# Altium footprint library CYBERGATE_V1_MASTERBOARD.PcbLib: 15 footprints
Each footprint in its own frame and in the unit in brackets; x right, y up, seen from the top. Pads: shape width x height; smd on the part's side, far side on the other; paste and mask are expansions set on the pad; w line width, h text height; cw(c..) or ccw(c..) is an arc to the next point about the centre after c.
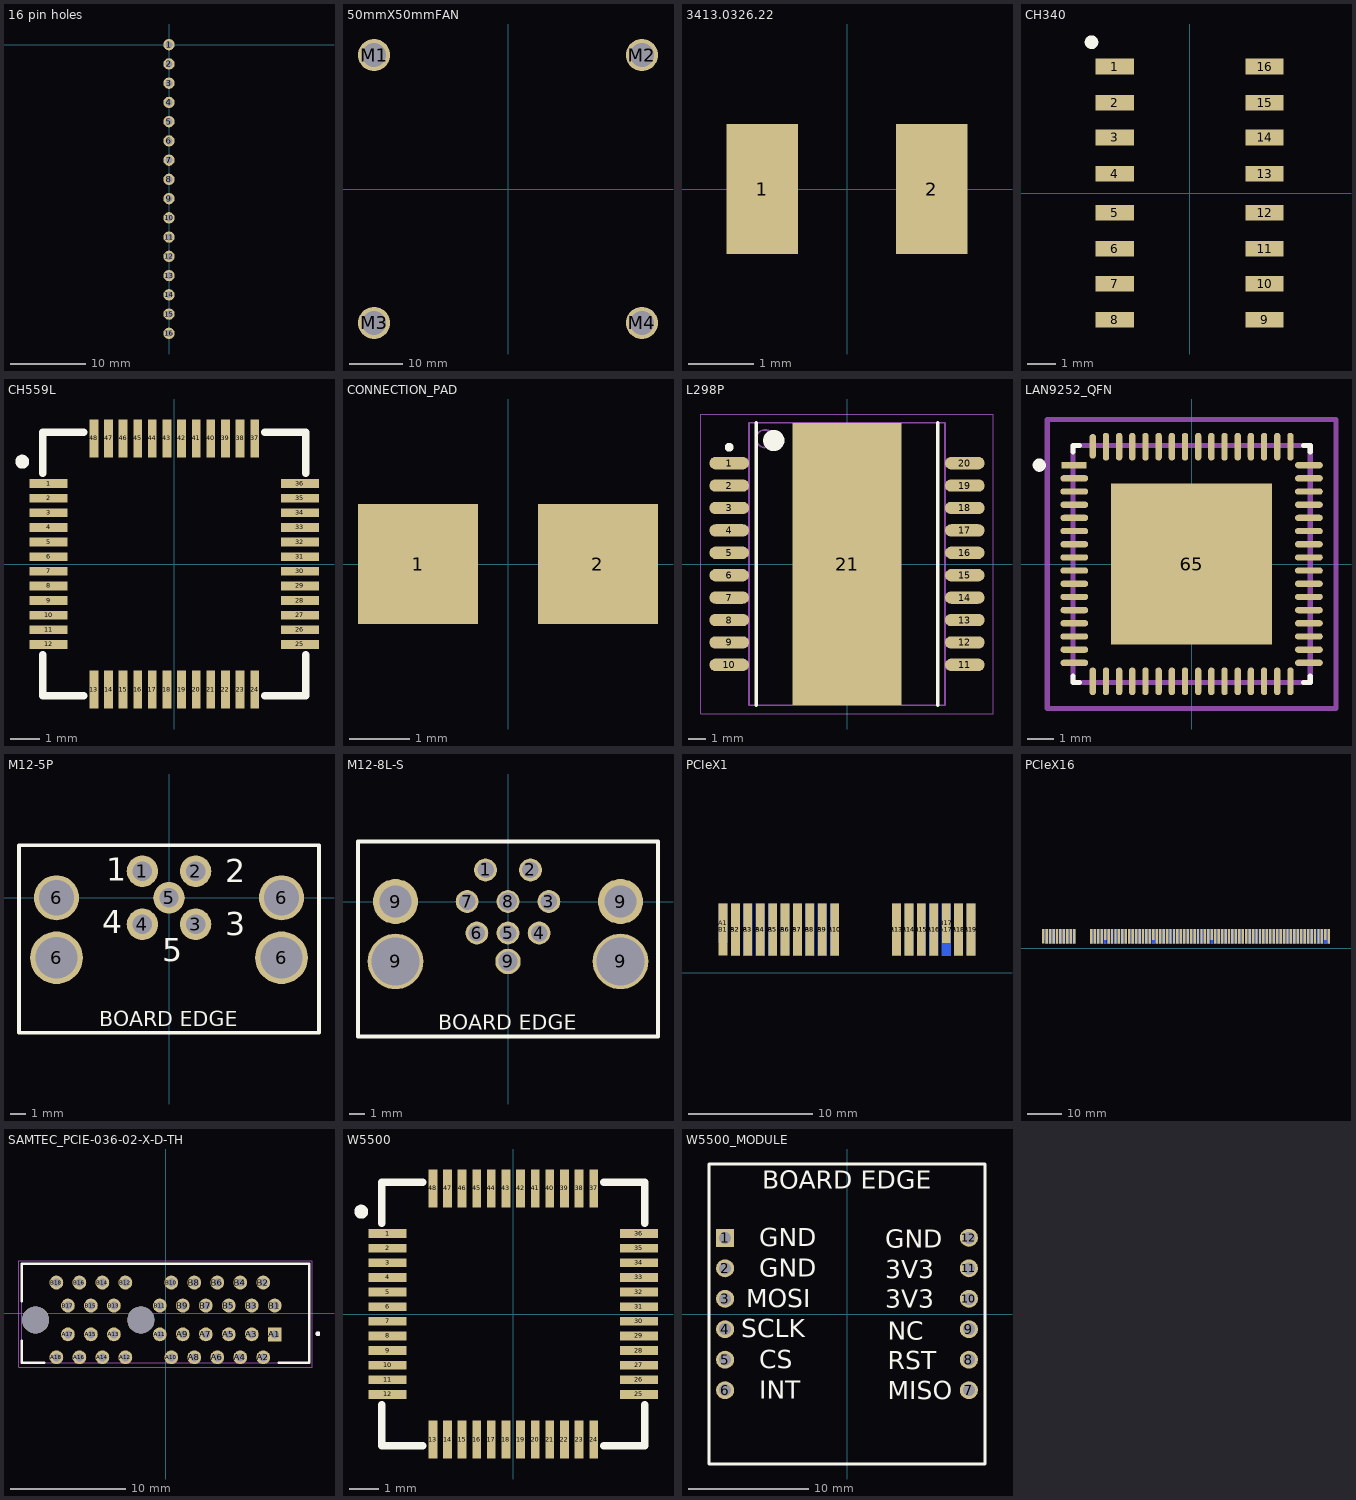
[diagram p0: the footprints below, top view; thin cyan lines are the x and y axes]

## 16 pin holes [mm]
pads (16):
  round 1.5 hole 0.9: 1(0,0) 2(0,-2.54) 3(0,-5.08) 4(0,-7.62) 5(0,-10.16) 6(0,-12.7) 7(0,-15.24) 8(0,-17.78) 9(0,-20.32) 10(0,-22.86) 11(0,-25.4) 12(0,-27.94) 13(0,-30.48) 14(0,-33.02) 15(0,-35.56) 16(0,-38.1)

## 50mmX50mmFAN [mm]
pads (4):
  round 6 hole 4.5: M1(-25,25) M2(25,25) M3(-25,-25) M4(25,-25)

## 3413.0326.22 [mm]
pads (2):
  rect 1.1x2 smd: 1(-1.3,0) 2(1.3,0)
3D body "3413.0326.22.step": height 0.67, standoff 0, extent -1.624,-0.7 1.6,0.9

## CH340 [mm]
pads (16):
  rect 1.35x0.55 smd mask+0.05: 1(-2.625,4.445) 2(-2.625,3.175) 3(-2.625,1.955) 4(-2.625,0.685) 5(-2.625,-0.685) 6(-2.625,-1.955) 7(-2.625,-3.175) 8(-2.625,-4.445) 9(2.625,-4.445) 10(2.625,-3.175) 11(2.625,-1.955) 12(2.625,-0.685) 13(2.625,0.685) 14(2.625,1.955) 15(2.625,3.175) 16(2.625,4.445)
Top Overlay:
  circle w0.254: c-3.45,5.3 r0.112
3D body "SO16 Narrow 3.9mm.step": height 1.35, standoff 0, extent -2.99,-4.95 2.99,4.95

## CH559L [mm]
pads (48):
  rect 1.3x0.3 smd mask+0.05: 1(-4.3,2.75) 2(-4.3,2.25) 3(-4.3,1.75) 4(-4.3,1.25) 5(-4.3,0.75) 6(-4.3,0.25) 7(-4.3,-0.25) 8(-4.3,-0.75) 9(-4.3,-1.25) 10(-4.3,-1.75) 11(-4.3,-2.25) 12(-4.3,-2.75) 25(4.3,-2.75) 26(4.3,-2.25) 27(4.3,-1.75) 28(4.3,-1.25) 29(4.3,-0.75) 30(4.3,-0.25) 31(4.3,0.25) 32(4.3,0.75) 33(4.3,1.25) 34(4.3,1.75) 35(4.3,2.25) 36(4.3,2.75)
  rect 0.3x1.3 smd mask+0.05: 13(-2.75,-4.3) 14(-2.25,-4.3) 15(-1.75,-4.3) 16(-1.25,-4.3) 17(-0.75,-4.3) 18(-0.25,-4.3) 19(0.25,-4.3) 20(0.75,-4.3) 21(1.25,-4.3) 22(1.75,-4.3) 23(2.25,-4.3) 24(2.75,-4.3) 37(2.75,4.3) 38(2.25,4.3) 39(1.75,4.3) 40(1.25,4.3) 41(0.75,4.3) 42(0.25,4.3) 43(-0.25,4.3) 44(-0.75,4.3) 45(-1.25,4.3) 46(-1.75,4.3) 47(-2.25,4.3) 48(-2.75,4.3)
Top Overlay:
  circle w0.254: c-5.2,3.5 r0.112
  lines w0.254: -4.5,-3.1 -4.5,-4.5 -3.1,-4.5 ; -4.5,3.1 -4.5,4.5 -3.1,4.5 ; 3.1,-4.5 4.5,-4.5 4.5,-3.1 ; 3.1,4.5 4.5,4.5 4.5,3.1
3D body "LQFP-48_7x7mm_P0.5mm.step": height 1.5, standoff 0, extent -4.5,-4.5 4.5,4.5

## CONNECTION_PAD [mm]
pads (2):
  rect 2x2 smd: 1(-1.5,0) 2(1.5,0)

## L298P [mm] "SOIC, 20-Leads, Body 16x11.1mm, Pitch 1.27mm, Thermal Pad 16x6.2mm, IPC Low Density"
height 3.6
pads (21):
  oval 2.25x0.7 smd: 1(-6.675,5.715) 2(-6.675,4.445) 3(-6.675,3.175) 4(-6.675,1.905) 5(-6.675,0.635) 6(-6.675,-0.635) 7(-6.675,-1.905) 8(-6.675,-3.175) 9(-6.675,-4.445) 10(-6.675,-5.715) 11(6.675,-5.715) 12(6.675,-4.445) 13(6.675,-3.175) 14(6.675,-1.905) 15(6.675,-0.635) 16(6.675,0.635) 17(6.675,1.905) 18(6.675,3.175) 19(6.675,4.445) 20(6.675,5.715)
  rect 6.2x16 smd: 21(0,0)
Top Overlay:
  circle w0.6: c-4.15,7 r0.3
  circle w0.25: c-6.675,6.615 r0.125
  lines w0.2: -5.15,-8 -5.15,8 ; 5.15,-8 5.15,8
Mechanical 13:
  circle w0.1: c-4.65,7.1 r0.5
  lines w0.1: -5.55,-8 5.55,-8 5.55,8 -5.55,8 -5.55,-8
Mechanical 15:
  lines w0.05: -8.3,-8.5 8.3,-8.5 8.3,8.5 -8.3,8.5 -8.3,-8.5
  lines w0.1: -0.5,0 0.5,0 ; 0,-0.5 0,0.5
3D body "SOIC127P1420X360_HS-21M.step": height 3.6, standoff 0, extent -7.1,-8 7.1,8

## LAN9252_QFN [mm]
pads (65):
  rect 0.94x0.239 smd paste+0 mask+0: 1(-4.466,3.75)
  rrect100% 1.057x0.239 smd paste+0 mask+0: 2(-4.451,3.25) 3(-4.451,2.75) 4(-4.451,2.25) 5(-4.451,1.75) 6(-4.451,1.25) 7(-4.451,0.75) 8(-4.451,0.25) 9(-4.451,-0.25) 10(-4.451,-0.75) 11(-4.451,-1.25) 12(-4.451,-1.75) 13(-4.451,-2.25) 14(-4.451,-2.75) 15(-4.451,-3.25) 16(-4.451,-3.75) 33(4.451,-3.75) 34(4.451,-3.25) 35(4.451,-2.75) 36(4.451,-2.25) 37(4.451,-1.75) 38(4.451,-1.25) 39(4.451,-0.75) 40(4.451,-0.25) 41(4.451,0.25) 42(4.451,0.75) 43(4.451,1.25) 44(4.451,1.75) 45(4.451,2.25) 46(4.451,2.75) 47(4.451,3.25) 48(4.451,3.75)
  rrect100% 0.239x1.057 smd paste+0 mask+0: 17(-3.75,-4.451) 18(-3.25,-4.451) 19(-2.75,-4.451) 20(-2.25,-4.451) 21(-1.75,-4.451) 22(-1.25,-4.451) 23(-0.75,-4.451) 24(-0.25,-4.451) 25(0.25,-4.451) 26(0.75,-4.451) 27(1.25,-4.451) 28(1.75,-4.451) 29(2.25,-4.451) 30(2.75,-4.451) 31(3.25,-4.451) 32(3.75,-4.451) 49(3.75,4.451) 50(3.25,4.451) 51(2.75,4.451) 52(2.25,4.451) 53(1.75,4.451) 54(1.25,4.451) 55(0.75,4.451) 56(0.25,4.451) 57(-0.25,4.451) 58(-0.75,4.451) 59(-1.25,4.451) 60(-1.75,4.451) 61(-2.25,4.451) 62(-2.75,4.451) 63(-3.25,4.451)
  rrect100% 0.239x0.94 smd paste+0 mask+0: 64(-3.75,4.465)
  rect 6.1x6.1 smd paste-1000 mask+0: 65(0,0)
Top Overlay:
  circle w0.25: c-5.779,3.75 r0.125
  lines w0.2: -4.5,-4.25 -4.5,-4.5 -4.25,-4.5 ; -4.5,4.25 -4.5,4.5 -4.25,4.5 ; 4.25,-4.5 4.5,-4.5 4.5,-4.25 ; 4.25,4.5 4.5,4.5 4.5,4.25
Top Paste:
  rectangle: -2.303,0.374 -0.374,2.303
  rectangle: 0.374,0.374 2.303,2.303
  rectangle: -2.303,-2.303 -0.374,-0.374
  rectangle: 0.374,-2.303 2.303,-0.374
Top 3D Body:
  lines w0.2: -4.5,-4.5 4.5,-4.5 4.5,4.5 -4.5,4.5 -4.5,-4.5
Top Courtyard:
  lines w0.2: -5.479,-5.479 5.479,-5.479 5.479,5.479 -5.479,5.479 -5.479,-5.479
Top Assembly:
  lines w0.2: -5.479,-5.479 5.479,-5.479 5.479,5.479 -5.479,5.479 -5.479,-5.479
  text ".Designator" at 0,0 h1
Top Component Center:
  lines w0.1: -0.5,0 0.5,0 ; 0,-0.5 0,0.5
3D body "IC_Microchip_LAN9252I-ML_eec.STEP": height 0.25, standoff 0, extent -5.479,-5.479 5.479,5.479

## M12-5P [mm] "M12 5-pin PCB right-angle connector FEMALE"
pads (9):
  round 2.1 hole 1.3: 1(-1.77,1.77) 2(1.77,1.77) 3(1.77,-1.77) 4(-1.77,-1.77) 5(0,0)
  round 3.5 hole 2.8: 6(-7.5,-4) 6(7.5,-4)
  round 3 hole 2.35: 6(-7.5,0) 6(7.5,0)
Top Overlay:
  lines w0.254: -10,-9 -10,3.5 10,3.5 10,-9 -10,-9
  text "BOARD EDGE" at -4.65,-8.55 h1
  text "5" at -0.45,-4.25 h1.52
  text "2" at 3.75,1.04 h1.52
  text "3" at 3.75,-2.5 h1.52
  text "4" at -4.45,-2.35 h1.52
  text "1" at -4.2,1.15 h1.52

## M12-8L-S [mm] "M12 8-pin right angle female connector"
pads (13):
  round 1.524 hole 1.1: 1(-1.5,2.1) 2(1.5,2.1) 3(2.725,0) 4(2.075,-2.1) 5(0,-2.1) 6(-2.075,-2.1) 7(-2.725,0)
  round 1.524 hole 1.2: 8(0,0)
  round 3.7 hole 3.2: 9(-7.5,-4) 9(7.5,-4)
  round 3 hole 2.15: 9(-7.5,0) 9(7.5,0)
  round 1.7 hole 1.3: 9(0,-4)
Top Overlay:
  lines w0.254: -10,-9 10,-9 10,4 -10,4 -10,-9
  text "BOARD EDGE" at -4.65,-8.55 h1
Bottom Overlay:
  text "5" at -0.8,-1.35 h0.8
  text "6" at -3.575,-2.4 h0.8
  text "7" at -4.225,-0.3 h0.8
  text "4" at 4.075,-2.4 h0.8
  text "3" at 4.725,-0.3 h0.8
  text "2" at 3.5,1.8 h0.8
  text "1" at -3,1.8 h0.8
  text "8" at 0.25,1.25 h0.8
3D body "M12-8L-S.stp": height 16, standoff -3.4, extent -9.65,-26.53 9.65,3.365

## PCIeX1 [mm]
pads (34):
  rect 0.7x3.2 smd far side: A1(45.65,4)
  rect 0.7x4.2 smd far side: A2(46.65,3.5) A3(47.65,3.5) A4(48.65,3.5) A5(49.65,3.5) A6(50.65,3.5) A7(51.65,3.5) A8(52.65,3.5) A9(53.65,3.5) A10(54.65,3.5) A13(59.65,3.5) A14(60.65,3.5) A15(61.65,3.5) A16(62.65,3.5) A17(63.65,3.5) A18(64.65,3.5) A19(65.65,3.5)
  rect 0.7x4.2 smd: B1(45.65,3.5) B2(46.65,3.5) B3(47.65,3.5) B4(48.65,3.5) B5(49.65,3.5) B6(50.65,3.5) B7(51.65,3.5) B8(52.65,3.5) B9(53.65,3.5) B10(54.65,3.5) B13(59.65,3.5) B14(60.65,3.5) B15(61.65,3.5) B16(62.65,3.5) B18(64.65,3.5) B19(65.65,3.5)
  rect 0.7x3.2 smd: B17(63.65,4)
Top Solder:
  rectangle: 44.75,-0.25 66.55,5.725
Bottom Solder:
  rectangle: 44.75,-0.25 66.55,5.725

## PCIeX16 [mm]
pads (160):
  rect 0.7x3.2 smd far side: A1(45.65,4)
  rect 0.7x4.2 smd far side: A2(46.65,3.5) A3(47.65,3.5) A4(48.65,3.5) A5(49.65,3.5) A6(50.65,3.5) A7(51.65,3.5) A8(52.65,3.5) A9(53.65,3.5) A10(54.65,3.5) A13(59.65,3.5) A14(60.65,3.5) A15(61.65,3.5) A16(62.65,3.5) A17(63.65,3.5) A18(64.65,3.5) A19(65.65,3.5) A20(66.65,3.5) A21(67.65,3.5) A22(68.65,3.5) A23(69.65,3.5) A24(70.65,3.5) A25(71.65,3.5) A26(72.65,3.5) A27(73.65,3.5) A28(74.65,3.5) A29(75.65,3.5) A30(76.65,3.5) A31(77.65,3.5) A32(78.65,3.5) A33(79.65,3.5) A34(80.65,3.5) A35(81.65,3.5) A36(82.65,3.5) A37(83.65,3.5) A38(84.65,3.5) A39(85.65,3.5) A40(86.65,3.5) A41(87.65,3.5) A42(88.65,3.5) A43(89.65,3.5) A44(90.65,3.5) A45(91.65,3.5) A46(92.65,3.5) A47(93.65,3.5) A48(94.65,3.5) A49(95.65,3.5) A50(96.65,3.5) A51(97.65,3.5) A52(98.65,3.5) A53(99.65,3.5) A54(100.65,3.5) A55(101.65,3.5) A56(102.65,3.5) A57(103.65,3.5) A58(104.65,3.5) A59(105.65,3.5) A60(106.65,3.5) A61(107.65,3.5) A62(108.65,3.5) A63(109.65,3.5) A64(110.65,3.5) A65(111.65,3.5) A66(112.65,3.5) A67(113.65,3.5) A68(114.65,3.5) A69(115.65,3.5) A70(116.65,3.5) A71(117.65,3.5) A72(118.65,3.5) A73(119.65,3.5) A74(120.65,3.5) A75(121.65,3.5) A76(122.65,3.5) A77(123.65,3.5) A78(124.65,3.5) A79(125.65,3.5) A80(126.65,3.5) A81(127.65,3.5) A82(128.65,3.5)
  rect 0.7x4.2 smd: B1(45.65,3.5) B2(46.65,3.5) B3(47.65,3.5) B4(48.65,3.5) B5(49.65,3.5) B6(50.65,3.5) B7(51.65,3.5) B8(52.65,3.5) B9(53.65,3.5) B10(54.65,3.5) B13(59.65,3.5) B14(60.65,3.5) B15(61.65,3.5) B16(62.65,3.5) B18(64.65,3.5) B19(65.65,3.5) B20(66.65,3.5) B21(67.65,3.5) B22(68.65,3.5) B23(69.65,3.5) B24(70.65,3.5) B25(71.65,3.5) B26(72.65,3.5) B27(73.65,3.5) B28(74.65,3.5) B29(75.65,3.5) B30(76.65,3.5) B32(78.65,3.5) B33(79.65,3.5) B34(80.65,3.5) B35(81.65,3.5) B36(82.65,3.5) B37(83.65,3.5) B38(84.65,3.5) B39(85.65,3.5) B40(86.65,3.5) B41(87.65,3.5) B42(88.65,3.5) B43(89.65,3.5) B44(90.65,3.5) B45(91.65,3.5) B46(92.65,3.5) B47(93.65,3.5) B49(95.65,3.5) B50(96.65,3.5) B51(97.65,3.5) B52(98.65,3.5) B53(99.65,3.5) B54(100.65,3.5) B55(101.65,3.5) B56(102.65,3.5) B57(103.65,3.5) B58(104.65,3.5) B59(105.65,3.5) B60(106.65,3.5) B61(107.65,3.5) B62(108.65,3.5) B63(109.65,3.5) B64(110.65,3.5) B65(111.65,3.5) B66(112.65,3.5) B67(113.65,3.5) B68(114.65,3.5) B69(115.65,3.5) B70(116.65,3.5) B71(117.65,3.5) B72(118.65,3.5) B73(119.65,3.5) B74(120.65,3.5) B75(121.65,3.5) B76(122.65,3.5) B77(123.65,3.5) B78(124.65,3.5) B79(125.65,3.5) B80(126.65,3.5) B82(128.65,3.5)
  rect 0.7x3.2 smd: B17(63.65,4) B31(77.65,4) B48(94.65,4) B81(127.65,4)
Top Solder:
  rectangle: 44.75,-0.25 129.55,5.725
Bottom Solder:
  rectangle: 44.75,-0.25 129.55,5.725

## SAMTEC_PCIE-036-02-X-D-TH [mm]
pads (38):
  rect 1.208x1.208 hole 0.7: A1(9.5,-1.835)
  round 1.208 hole 0.7: A2(8.5,-3.835) A3(7.5,-1.835) A4(6.5,-3.835) A5(5.5,-1.835) A6(4.5,-3.835) A7(3.5,-1.835) A8(2.5,-3.835) A9(1.5,-1.835) A10(0.5,-3.835) A11(-0.5,-1.835) A12(-3.5,-3.835) A13(-4.5,-1.835) A14(-5.5,-3.835) A15(-6.5,-1.835) A16(-7.5,-3.835) A17(-8.5,-1.835) A18(-9.5,-3.835) B1(9.5,0.665) B2(8.5,2.665) B3(7.5,0.665) B4(6.5,2.665) B5(5.5,0.665) B6(4.5,2.665) B7(3.5,0.665) B8(2.5,2.665) B9(1.5,0.665) B10(0.5,2.665) B11(-0.5,0.665) B12(-3.5,2.665) B13(-4.5,0.665) B14(-5.5,2.665) B15(-6.5,0.665) B16(-7.5,2.665) B17(-8.5,0.665) B18(-9.5,2.665)
  round 2.35 hole 2.35 unplated: ""(-11.3,-0.585) ""(-2.15,-0.585)
Top Overlay:
  circle w0.2: c13.25,-1.785 r0.1
  lines w0.2: -12.5,-2.385 -12.5,-4.3 -10.55,-4.3 ; -12.5,1.015 -12.5,4.3 12.5,4.3 12.5,-4.3 9.85,-4.3
Mechanical 13:
  circle w0.2: c13.25,-1.785 r0.1
  lines w0.1: -12.5,-4.3 -12.5,4.3 12.5,4.3 12.5,-4.3 -12.5,-4.3
Mechanical 15:
  lines w0.05: -12.75,-4.685 -12.75,4.55 12.75,4.55 12.75,-4.685 -12.75,-4.685
3D body "10018783-10010TLF.STEP": height 11, standoff -4.4, extent -12.5,-4.2 12.5,4.6

## W5500 [mm]
pads (48):
  rect 1.3x0.3 smd mask+0.05: 1(-4.3,2.75) 2(-4.3,2.25) 3(-4.3,1.75) 4(-4.3,1.25) 5(-4.3,0.75) 6(-4.3,0.25) 7(-4.3,-0.25) 8(-4.3,-0.75) 9(-4.3,-1.25) 10(-4.3,-1.75) 11(-4.3,-2.25) 12(-4.3,-2.75) 25(4.3,-2.75) 26(4.3,-2.25) 27(4.3,-1.75) 28(4.3,-1.25) 29(4.3,-0.75) 30(4.3,-0.25) 31(4.3,0.25) 32(4.3,0.75) 33(4.3,1.25) 34(4.3,1.75) 35(4.3,2.25) 36(4.3,2.75)
  rect 0.3x1.3 smd mask+0.05: 13(-2.75,-4.3) 14(-2.25,-4.3) 15(-1.75,-4.3) 16(-1.25,-4.3) 17(-0.75,-4.3) 18(-0.25,-4.3) 19(0.25,-4.3) 20(0.75,-4.3) 21(1.25,-4.3) 22(1.75,-4.3) 23(2.25,-4.3) 24(2.75,-4.3) 37(2.75,4.3) 38(2.25,4.3) 39(1.75,4.3) 40(1.25,4.3) 41(0.75,4.3) 42(0.25,4.3) 43(-0.25,4.3) 44(-0.75,4.3) 45(-1.25,4.3) 46(-1.75,4.3) 47(-2.25,4.3) 48(-2.75,4.3)
Top Overlay:
  circle w0.254: c-5.2,3.5 r0.112
  lines w0.254: -4.5,-3.1 -4.5,-4.5 -3.1,-4.5 ; -4.5,3.1 -4.5,4.5 -3.1,4.5 ; 3.1,-4.5 4.5,-4.5 4.5,-3.1 ; 3.1,4.5 4.5,4.5 4.5,3.1
3D body "LQFP-48_7x7mm_P0.5mm.step": height 1.5, standoff 0, extent -4.5,-4.5 4.5,4.5

## W5500_MODULE [mm]
pads (12):
  rect 1.5x1.5 hole 1: 1(-10.16,6.35)
  round 1.5 hole 1: 2(-10.16,3.81) 3(-10.16,1.27) 4(-10.16,-1.27) 5(-10.16,-3.81) 6(-10.16,-6.35) 7(10.16,-6.35) 8(10.16,-3.81) 9(10.16,-1.27) 10(10.16,1.27) 11(10.16,3.81) 12(10.16,6.35)
Top Overlay:
  lines w0.254: -11.5,-12.5 -11.5,12.5 11.5,12.5 11.5,-12.5 -11.5,-12.5
  text "BOARD EDGE" at -7.05,10.45 h1.52
  text "GND" at -7.3,5.65 h1.52
  text "GND" at -7.3,3.11 h1.52
  text "MOSI" at -8.4,0.55 h1.52
  text "SCLK" at -8.8,-1.95 h1.52
  text "CS" at -7.3,-4.51 h1.52
  text "INT" at -7.3,-7.05 h1.52
  text "MISO" at 3.4,-7.1 h1.52
  text "RST" at 3.4,-4.6 h1.52
  text "NC" at 3.4,-2.15 h1.52
  text "3V3" at 3.2,0.5 h1.52
  text "3V3" at 3.2,2.96 h1.52
  text "GND" at 3.2,5.5 h1.52